# EAGLE library part CBTU02043 (library ICs)
High-speed differential 1-to-2 switch
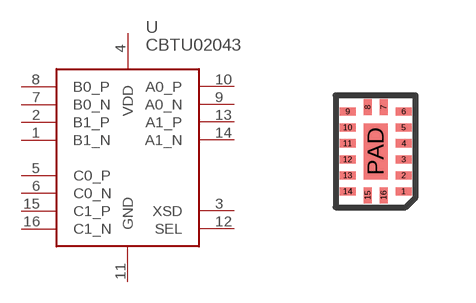
[diagram p269: symbol with the pads of HUQFN16; footprint HUQFN16]

Designator prefix U

## CBTU02043 (DIGIKEY: 568-13400-1-ND; HEIGHT: 1; PRICE_PER: 1.17; VALUE: CBTU02043)  [HUQFN16]
1  B1_N
2  B1_P
3  XSD
4  VDD
5  C0_P
6  C0_N
7  B0_N
8  B0_P
9  A0_N
10  A0_P
11  GND
12  SEL
13  A1_P
14  A1_N
15  C1_P
16  C1_N

## Footprint HUQFN16 (pad centres in mm)
smd 0.4 x 0.2: 1 0.7,-1; 2 0.7,-0.6; 3 0.7,-0.2; 4 0.7,0.2; 5 0.7,0.6; 6 0.7,1; 9 -0.7,1; 10 -0.7,0.6; 11 -0.7,0.2; 12 -0.7,-0.2; 13 -0.7,-0.6; 14 -0.7,-1
smd 0.2 x 0.4: 7 0.2,1.1; 8 -0.2,1.1; 15 -0.2,-1.1; 16 0.2,-1.1
smd 0.6 x 1.4: PAD 0,0